# EAGLE library part CONVERTER-ETA3410 (library IC-new)
3MHZ 2A High Step-Down Converter in DFN2x2-8L Package
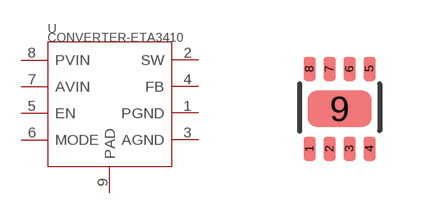
[diagram p1: symbol with the pads of DFN8G-0.5-2X2MM; footprint DFN8G-0.5-2X2MM]

Designator prefix U

## CONVERTER-ETA3410  [DFN8G-0.5-2X2MM]
1  PGND
2  SW
3  AGND
4  FB
5  EN
6  MODE
7  AVIN
8  PVIN
9  PAD

## Footprint DFN8G-0.5-2X2MM (pad centres in mm)
smd 0.3 x 0.6: 1 -0.75,-1; 2 -0.25,-1; 3 0.25,-1; 4 0.75,-1; 5 0.75,1; 6 0.25,1; 7 -0.25,1; 8 -0.75,1
smd 1.6 x 0.9: 9 0,0